# EAGLE library part PIC16F1829 (library act-global-nolan)
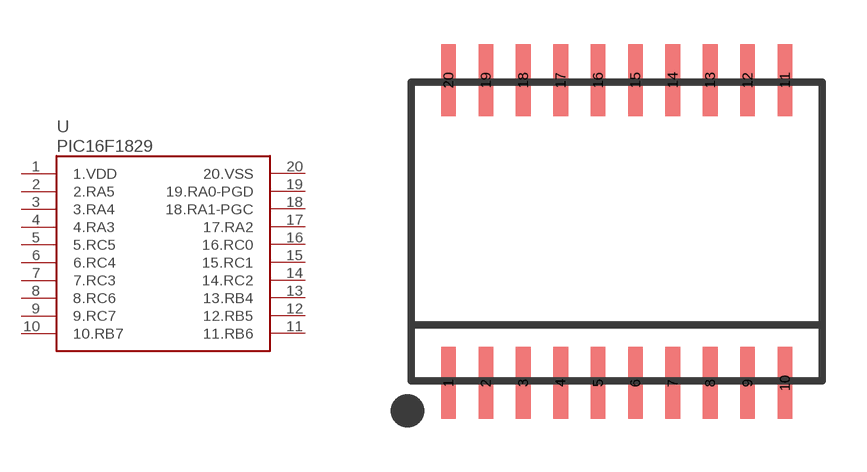
[diagram p28: symbol with the pads of SO20-WIDE; footprint SO20-WIDE]

Designator prefix -

## PIC16F1829  [SO20-WIDE]
1  1.VDD
2  2.RA5
3  3.RA4
4  4.RA3
5  5.RC5
6  6.RC4
7  7.RC3
8  8.RC6
9  9.RC7
10  10.RB7
11  11.RB6
12  12.RB5
13  13.RB4
14  14.RC2
15  15.RC1
16  16.RC0
17  17.RA2
18  18.RA1-PGC
19  19.RA0-PGD
20  20.VSS

## Footprint SO20-WIDE (pad centres in mm)
smd 0.5 x 2.45: 1 -5.715,-5.15; 2 -4.445,-5.15; 3 -3.175,-5.15; 4 -1.905,-5.15; 5 -0.635,-5.15; 6 0.635,-5.15; 7 1.905,-5.15; 8 3.175,-5.15; 9 4.445,-5.15; 10 5.715,-5.15; 11 5.715,5.15; 12 4.445,5.15; 13 3.175,5.15; 14 1.905,5.15; 15 0.635,5.15; 16 -0.635,5.15; 17 -1.905,5.15; 18 -3.175,5.15; 19 -4.445,5.15; 20 -5.715,5.15